# Altium footprint library WPME-VISM.PcbLib: 1 footprints
Each footprint in its own frame and in the unit in brackets; x right, y up, seen from the top. Pads: shape width x height; smd on the part's side, far side on the other; paste and mask are expansions set on the pad; w line width, h text height; cw(c..) or ccw(c..) is an arc to the next point about the centre after c.
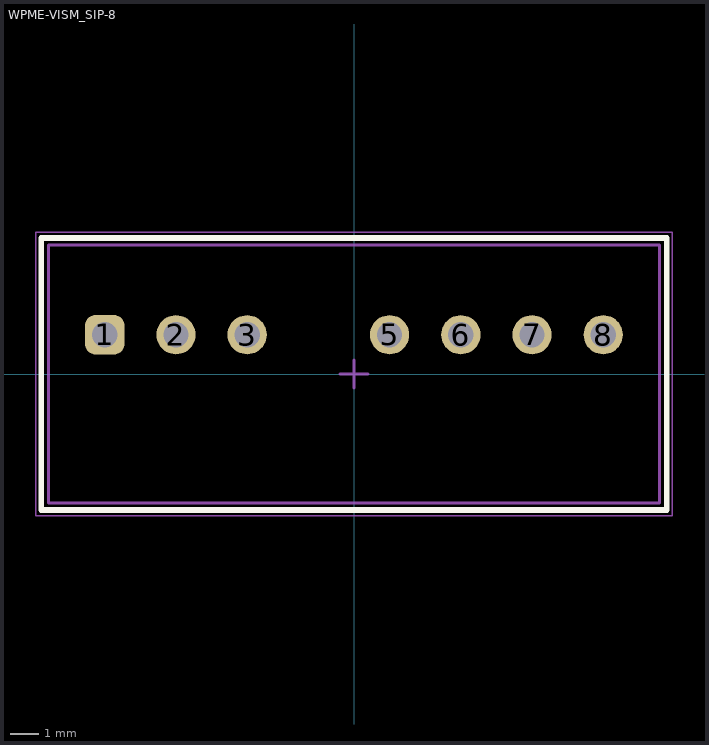
[diagram p0: the footprint, top view; thin cyan lines are the x and y axes]

## WPME-VISM_SIP-8 [mm] "Variable Isolated SIP Module, body 21.80x9.20mm"
height 11.1
pads (7):
  rrect50% 1.4x1.4 hole 0.9: 1(-8.89,1.4)
  round 1.4 hole 0.9: 2(-6.35,1.4) 3(-3.81,1.4) 5(1.27,1.4) 6(3.81,1.4) 7(6.35,1.4) 8(8.89,1.4)
Top Overlay:
  lines w0.2: -11.15,-4.85 11.15,-4.85 11.15,4.85 -11.15,4.85 -11.15,-4.85
Top Assembly:
  lines w0.1: -10.9,-4.6 10.9,-4.6 10.9,4.6 -10.9,4.6 -10.9,-4.6
Top Designator:
  text ".Designator" at -3.647,-0.357 h1
Top 3D Body:
  lines w0.1: -10.9,-4.6 -10.9,4.6 10.9,4.6 10.9,-4.6 -10.9,-4.6
Top Courtyard:
  lines w0.05: -11.35,-5.05 -11.35,5.05 11.35,5.05 11.35,-5.05 -11.35,-5.05
Top Component Center:
  lines w0.1: -0.5,0 0.5,0 ; 0,-0.5 0,0.5
3D body "17791063215.stp": height 11.15, standoff -3.05, extent -10.9,-4.6 10.9,4.6